# Altium schematic symbol library Vibrating_Motor_0408.SchLib: 1 symbol
Pins are listed as number, name and electrical type; pins without a type are passive.

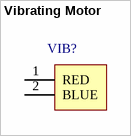
[diagram p0: symbol Vibrating Motor]

## Vibrating Motor
designator VIB?, comment Vibrating Motor 0408  (value not drawn)
Package: 0408
footprint Vibrating_Motor
pins: 1 RED, 2 BLUE